# EAGLE library part TPS61042 (library X893)
http://focus.ti.com/docs/prod/folders/print/tps61042.html
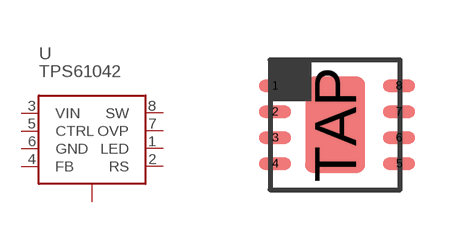
[diagram p117: symbol with the pads of SON-8; footprint SON-8]

Designator prefix U

## TPS61042  [SON-8]
1  LED  pas
2  RS  pas
3  VIN  pas
4  FB  pas
5  CTRL
6  GND  sup
7  OVP  pas
8  SW  pas
TAP  TAP  pas

## Footprint SON-8 (pad centres in mm)
smd 0.8 x 0.3: 1 -1.5,0.975; 2 -1.5,0.325; 3 -1.5,-0.325; 4 -1.5,-0.975; 5 1.6,-0.975; 6 1.6,-0.325; 7 1.6,0.325; 8 1.6,0.975
smd 1.5 x 2.4: TAP 0,0